# Altium schematic symbol library GRM188R71E104KA01D.SchLib: 1 symbol
Pins are listed as number, name and electrical type; pins without a type are passive.

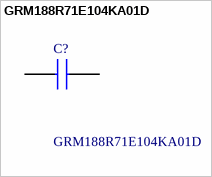
[diagram p0: symbol GRM188R71E104KA01D]

## GRM188R71E104KA01D
designator C?
Multilayer Ceramic Capacitors MLCC - SMD/SMT 0603 0.1uF 25volts X7R 10%; Manufacturer_Name: Murata Electronics; Geometry.Height: 0.9mm; Manufacturer_Part_Number: GRM188R71E104KA01D; Mouser Part Number: 81-GRM39X104K25; Mouser Price/Stock: https://www.mouser.co.uk/ProductDetail/Murata-Electronics/GRM188R71E104KA01D?qs=kZszf6EFsb%252BcS4JW42Ze0A%3D%3D; Arrow Part Number: GRM188R71E104KA01D; Arrow Price/Stock: https://www.arrow.com/en/products/grm188r71e104ka01d/murata-manufacturing?region=europe; Datasheet Link: https://datasheet.datasheetarchive.com/originals/distributors/Datasheets_SAMA/ec4f1577dddcc7a13ddad897a28002d3.pdf
footprint CAPC1608X90N
pins: 1, 2